# EAGLE library part LTC3459 (library ltc3459)
The LTC®3459 is a low current, high effi ciency synchronous boost converter intended for low power, size constrained portable applications. The LTC3459 can be powered from a single lithium ion battery, a 2- to 3-cell stack of alkaline or nickel batteries, or any low impedance voltage source between 1.5V and 5.5V. The output is programmable via an external divider between 2.5V and 10V. Although the part is primarily intended for boost applications, VOUT will maintain regulation below VIN (at reduced effi ciency). The LTC3459 offers Burst Mode operation with a fi xed peak current, providing high conversion effi ciency over a wide range of load currents. During start-up, inductor current is controlled preventing the inrush surge current found in many boost converters. In shutdown the output is disconnected from the input and quiescent current is reduced to <1μA.
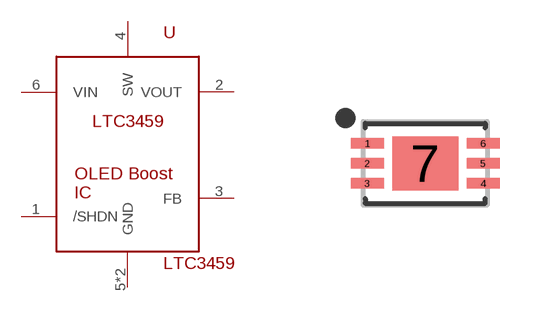
[diagram p0: symbol with the pads of SON50P300X200X75-7T165X135N; footprint SON50P300X200X75-7T165X135N]

Designator prefix -

## LTC3459  [SON50P300X200X75-7T165X135N]
1  /SHDN
2  VOUT
3  FB
4  SW
5  GND
6  VIN
7  GND

## Footprint SON50P300X200X75-7T165X135N (pad centres in mm)
6-SON (DFN), 0.50 mm pitch, 2.00 X 3.00 X 0.75 mm body, 1.35 X 1.65 mm thermal pad 6-pin SON (DFN) package with 0.50 mm pitch with body size 2.00 X 3.00 X 0.75 mm and thermal pad size 1.35 X 1.65 mm
smd 0.829 x 0.27: 1 -1.45,0.5; 2 -1.45,0; 3 -1.45,-0.5; 4 1.45,-0.5; 5 1.45,0; 6 1.45,0.5
smd 1.65 x 1.35: 7 0,0